# Altium footprint library diodes.PcbLib: 41 footprints (part 1 of 3)
Each footprint in its own frame and in the unit in brackets; x right, y up, seen from the top. Pads: shape width x height; smd on the part's side, far side on the other; paste and mask are expansions set on the pad; w line width, h text height; cw(c..) or ccw(c..) is an arc to the next point about the centre after c.
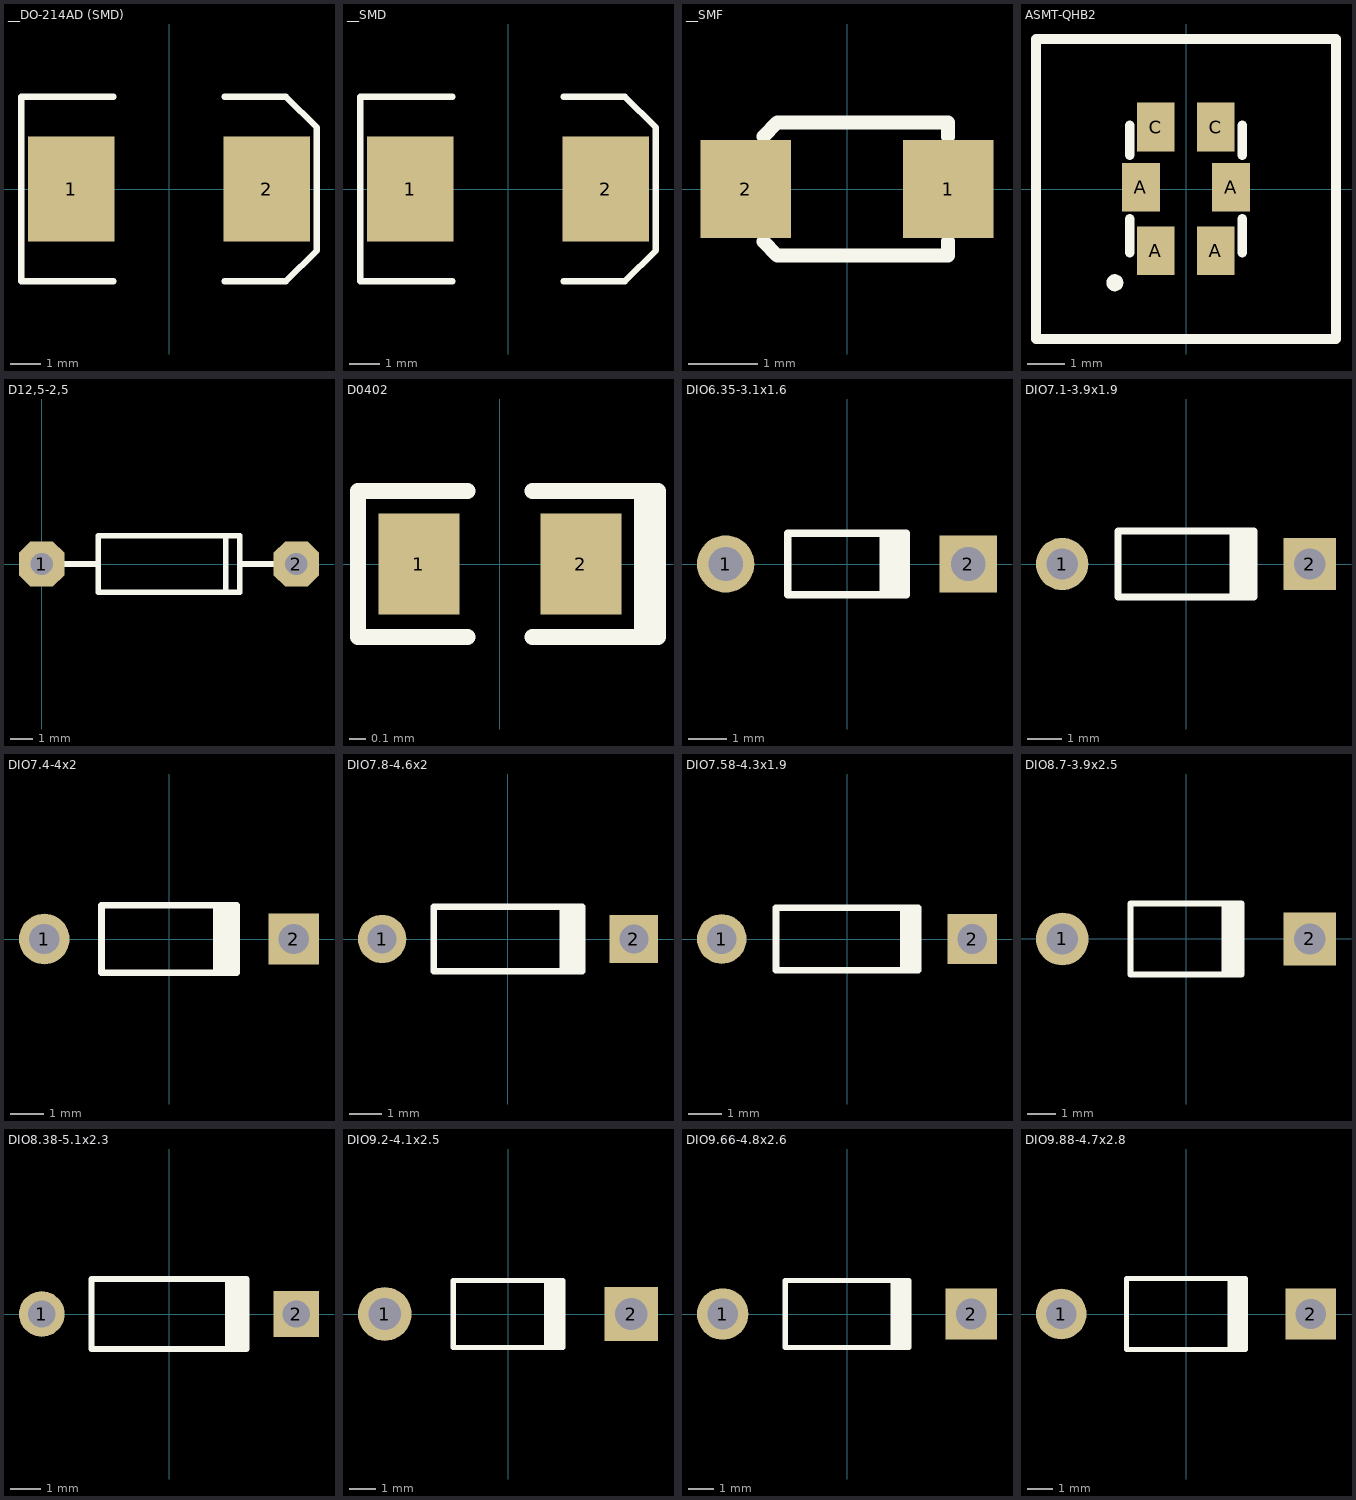
[diagram p0: the footprints below, top view; thin cyan lines are the x and y axes]

## __DO-214AD (SMD) [mm]
height 2.5
pads (2):
  rect 2.8x3.4 smd: 1(-3.175,0) 2(3.175,0)
Top Overlay:
  lines w0.2: -1.8,-3 -4.8,-3 -4.8,3 -1.8,3 ; 1.8,-3 3.8,-3 4.8,-2 4.8,2 3.8,3 1.8,3

## __SMD [mm]
height 2.5
pads (2):
  rect 2.8x3.4 smd: 1(-3.175,0) 2(3.175,0)
Top Overlay:
  lines w0.2: -1.8,-3 -4.8,-3 -4.8,3 -1.8,3 ; 1.8,-3 3.8,-3 4.8,-2 4.8,2 3.8,3 1.8,3

## __SMF [mm] "SMF, a.k.a.: DO219-AB"
height 1.43
pads (2):
  rect 1.3x1.4 smd: 1(1.45,0) 2(-1.45,0)
Top Overlay:
  lines w0.2: -1.2,-0.75 -1,-0.95 1.45,-0.95 1.45,-0.75 ; -1.2,0.75 -1,0.95 1.45,0.95 1.45,0.75
3D body "User Library-DO-219AB SMF.step": height 1.25, standoff 0, extent -1.95,-0.95 1.95,0.95

## ASMT-QHB2 [mm]
pads (6):
  rect 1x1.3 smd: A(-1.2,0.05) A(-0.8,-1.65) A(0.8,-1.65) A(1.2,0.05) C(-0.8,1.65) C(0.8,1.65)
Top Overlay:
  circle w0.254: c-1.9,-2.5 r0.1
  lines w0.254: -1.5,-1.7 -1.5,-0.8 ; -1.5,0.9 -1.5,1.7 ; 1.5,-1.7 1.5,-0.8 ; 1.5,0.9 1.5,1.7 ; -4,-4 -4,4 4,4 4,-4 -4,-4

## D12,5-2,5 [mil]
height 100
pads (2):
  oct 80x80 hole 39.37: 1(0,0) 2(450,0)
Top Overlay:
  lines w10: 25,0 100,0 ; 325,-50 325,50 ; 425,0 350,0 ; 350,0 350,50 100,50 100,-50 350,-50 350,0

## D0402 [mil]
pads (2):
  rect 20x25 smd: 1(-20,0) 2(20,0)
Top Overlay:
  lines w3.94: -8,-18 -35,-18 -35,18 -8,18 ; 8,-18 35,-18 35,18 ; 8,18 35,18 ; 35,18 39,18 39,-18 37,-18 ; 35,18 37,18 37,-18 ; 37,-18 33,-18 37,-18
3D body "cga0402mlc-05g.stp": height 13.39, standoff -0.79, extent -19.68,-9.84 19.69,9.85

## DIO6.35-3.1x1.6 [mm] "Diode, Axial; Body 3 x 1.6 mm (LxDia. max), Lead Dia. 0.55 mm (max)"
height 1.6
pads (2):
  round 1.5 hole 0.9: 1(-3.175,0)
  rect 1.5x1.5 hole 0.9: 2(3.175,0)
Top Overlay:
  rectangle: 0.85,-0.8 1.65,0.8
  lines w0.2: 1.55,-0.8 -1.55,-0.8 -1.55,0.8 1.55,0.8

## DIO7.1-3.9x1.9 [mm] "Diode, Axial; Body 3.8 x 1.9 mm (LxDia. max), Lead Dia. 0.53 mm (max)"
height 1.9
pads (2):
  round 1.5 hole 0.9: 1(-3.55,0)
  rect 1.5x1.5 hole 0.9: 2(3.55,0)
Top Overlay:
  rectangle: 1.25,-0.95 2.05,0.95
  lines w0.2: 1.95,-0.95 -1.95,-0.95 -1.95,0.95 1.95,0.95

## DIO7.4-4x2 [mm] "Diode, Axial; Body 4 x 2 mm (LxDia. max), Lead Dia. 0.6 mm (max)"
height 2
pads (2):
  round 1.5 hole 0.9: 1(-3.7,0)
  rect 1.5x1.5 hole 0.9: 2(3.7,0)
Top Overlay:
  rectangle: 1.3,-1 2.1,1
  lines w0.2: 2,-1 -2,-1 -2,1 2,1

## DIO7.8-4.6x2 [mm] "Diode, Axial; Body 4.6 x 1.9 mm (LxDia. max), Lead Dia. 0.53 mm (max)"
height 2
pads (2):
  round 1.5 hole 0.9: 1(-3.9,0)
  rect 1.5x1.5 hole 0.9: 2(3.9,0)
Top Overlay:
  rectangle: 1.6,-1 2.4,1
  lines w0.2: 2.3,-1 -2.3,-1 -2.3,1 2.3,1

## DIO7.58-4.3x1.9 [mm] "Diode, Axial; Body 4.3 x 1.9 mm (LxDia. max), Lead Dia. 0.56 mm (max)"
height 1.9
pads (2):
  round 1.5 hole 0.9: 1(-3.79,0)
  rect 1.5x1.5 hole 0.9: 2(3.79,0)
Top Overlay:
  rectangle: 1.6,-0.95 2.25,0.95
  lines w0.2: 2.15,-0.95 -2.15,-0.95 -2.15,0.95 2.15,0.95

## DIO8.7-3.9x2.5 [mm] "Diode, Axial; Body 3.9 x 2.5 mm (LxDia. max), Lead Dia. 0.8 mm (max)"
height 2.5
pads (2):
  round 1.85 hole 1.1: 1(-4.35,0)
  rect 1.85x1.85 hole 1.1: 2(4.35,0)
Top Overlay:
  rectangle: 1.25,-1.25 2.05,1.25
  lines w0.2: 1.95,-1.25 -1.95,-1.25 -1.95,1.25 1.95,1.25

## DIO8.38-5.1x2.3 [mm] "Diode, Axial; Body 5.1 x 2.3 mm (LxDia. max), Lead Dia. 0.56 mm (max)"
height 2.3
pads (2):
  round 1.5 hole 0.9: 1(-4.19,0)
  rect 1.5x1.5 hole 0.9: 2(4.19,0)
Top Overlay:
  rectangle: 1.85,-1.15 2.65,1.15
  lines w0.2: 2.55,-1.15 -2.55,-1.15 -2.55,1.15 2.55,1.15

## DIO9.2-4.1x2.5 [mm] "Diode, Axial; Body 4.1 x 2.5 mm (LxDia. max), Lead Dia. 0.85 mm (max)"
height 2.5
pads (2):
  round 2 hole 1.2: 1(-4.6,0)
  rect 2x2 hole 1.2: 2(4.6,0)
Top Overlay:
  rectangle: 1.35,-1.25 2.15,1.25
  lines w0.2: 2.05,-1.25 -2.05,-1.25 -2.05,1.25 2.05,1.25

## DIO9.66-4.8x2.6 [mm] "Diode, Axial; Body 4.8 x 2.6 mm (LxDia. max), Lead Dia. 0.81 mm (max)"
height 2.6
pads (2):
  round 2 hole 1.2: 1(-4.83,0)
  rect 2x2 hole 1.2: 2(4.83,0)
Top Overlay:
  rectangle: 1.7,-1.3 2.5,1.3
  lines w0.2: 2.4,-1.3 -2.4,-1.3 -2.4,1.3 2.4,1.3

## DIO9.88-4.7x2.8 [mm] "Diode, Axial; Body 4.7 x 2.7 mm (LxDia. max), Lead Dia. 0.86 mm (max)"
height 2.8
pads (2):
  round 2 hole 1.2: 1(-4.94,0)
  rect 2x2 hole 1.2: 2(4.94,0)
Top Overlay:
  rectangle: 1.65,-1.4 2.45,1.4
  lines w0.2: 2.35,-1.4 -2.35,-1.4 -2.35,1.4 2.35,1.4